# EAGLE library part FFC3B07-06-T (library FFC3B07-06-T)
06W, 1.0MM FFC CONN, R/A,BOT CON Source: Datasheet <https://gct.co/connector/ffc3b07>
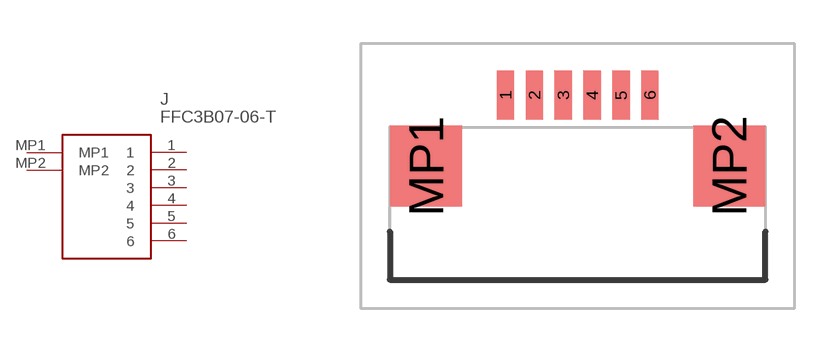
[diagram p0: symbol with the pads of FFC3B0706T; footprint FFC3B0706T]

Designator prefix J

## FFC3B07-06-T (Description: 06W, 1.0MM FFC CONN, R/A,BOT CON; Height: 2.65mm; Manufacturer_Name: GCT (GLOBAL CONNECTOR TECHNOLOGY); Manufacturer_Part_Number: FFC3B07-06-T)  [FFC3B0706T]
1  1
2  2
3  3
4  4
5  5
6  6
MP1  MP1
MP2  MP2

## Footprint FFC3B0706T (pad centres in mm)
FFC3B07-06-T-2
smd 0.6 x 1.7: 1 -2.5,3.75; 2 -1.5,3.75; 3 -0.5,3.75; 4 0.5,3.75; 5 1.5,3.75; 6 2.5,3.75
smd 2.5 x 2.8: MP1 -5.25,1.3; MP2 5.25,1.3